# Altium schematic symbol library 220 TO 5.SchLib: 1 symbol
Pins are listed as number, name and electrical type; pins without a type are passive.

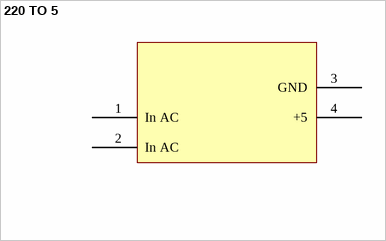
[diagram p0: symbol 220 TO 5]

## 220 TO 5
designator ?
footprint 220 TO 5
pins: 1 In AC, 2 In AC, 3 GND, 4 +5